# EAGLE library part IV-9 (library Library)
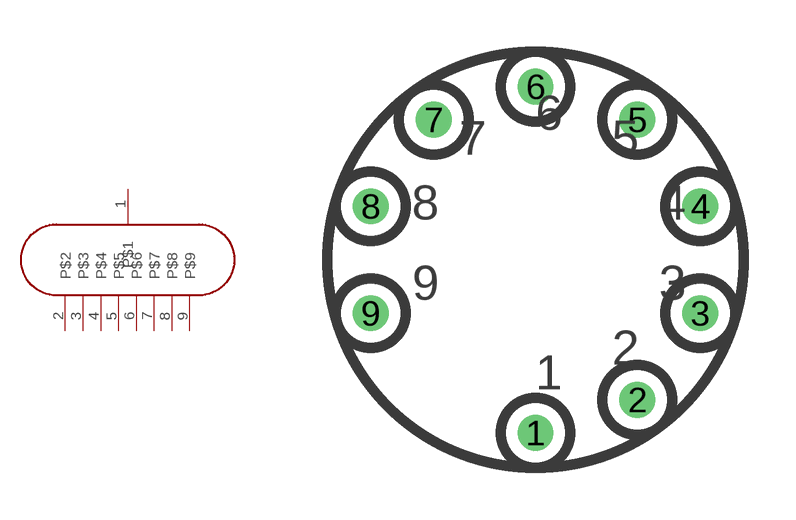
[diagram p0: symbol with the pads of IV-9; footprint IV-9]

Designator prefix -

## IV-9  [IV-9]
1  P$1
2  P$2
3  P$3
4  P$4
5  P$5
6  P$6
7  P$7
8  P$8
9  P$9

## Footprint IV-9 (pad centres in mm)
drill 0.525: 1 0,-4.994; 2 2.936,-4.041; 3 4.75,-1.543; 4 4.75,1.543; 5 2.936,4.041; 6 0,4.994; 7 -2.936,4.041; 8 -4.75,1.543; 9 -4.75,-1.543